# Altium footprint library Murata.PcbLib: 65 footprints (part 4 of 5)
Each footprint in its own frame and in the unit in brackets; x right, y up, seen from the top. Pads: shape width x height; smd on the part's side, far side on the other; paste and mask are expansions set on the pad; w line width, h text height; cw(c..) or ccw(c..) is an arc to the next point about the centre after c.
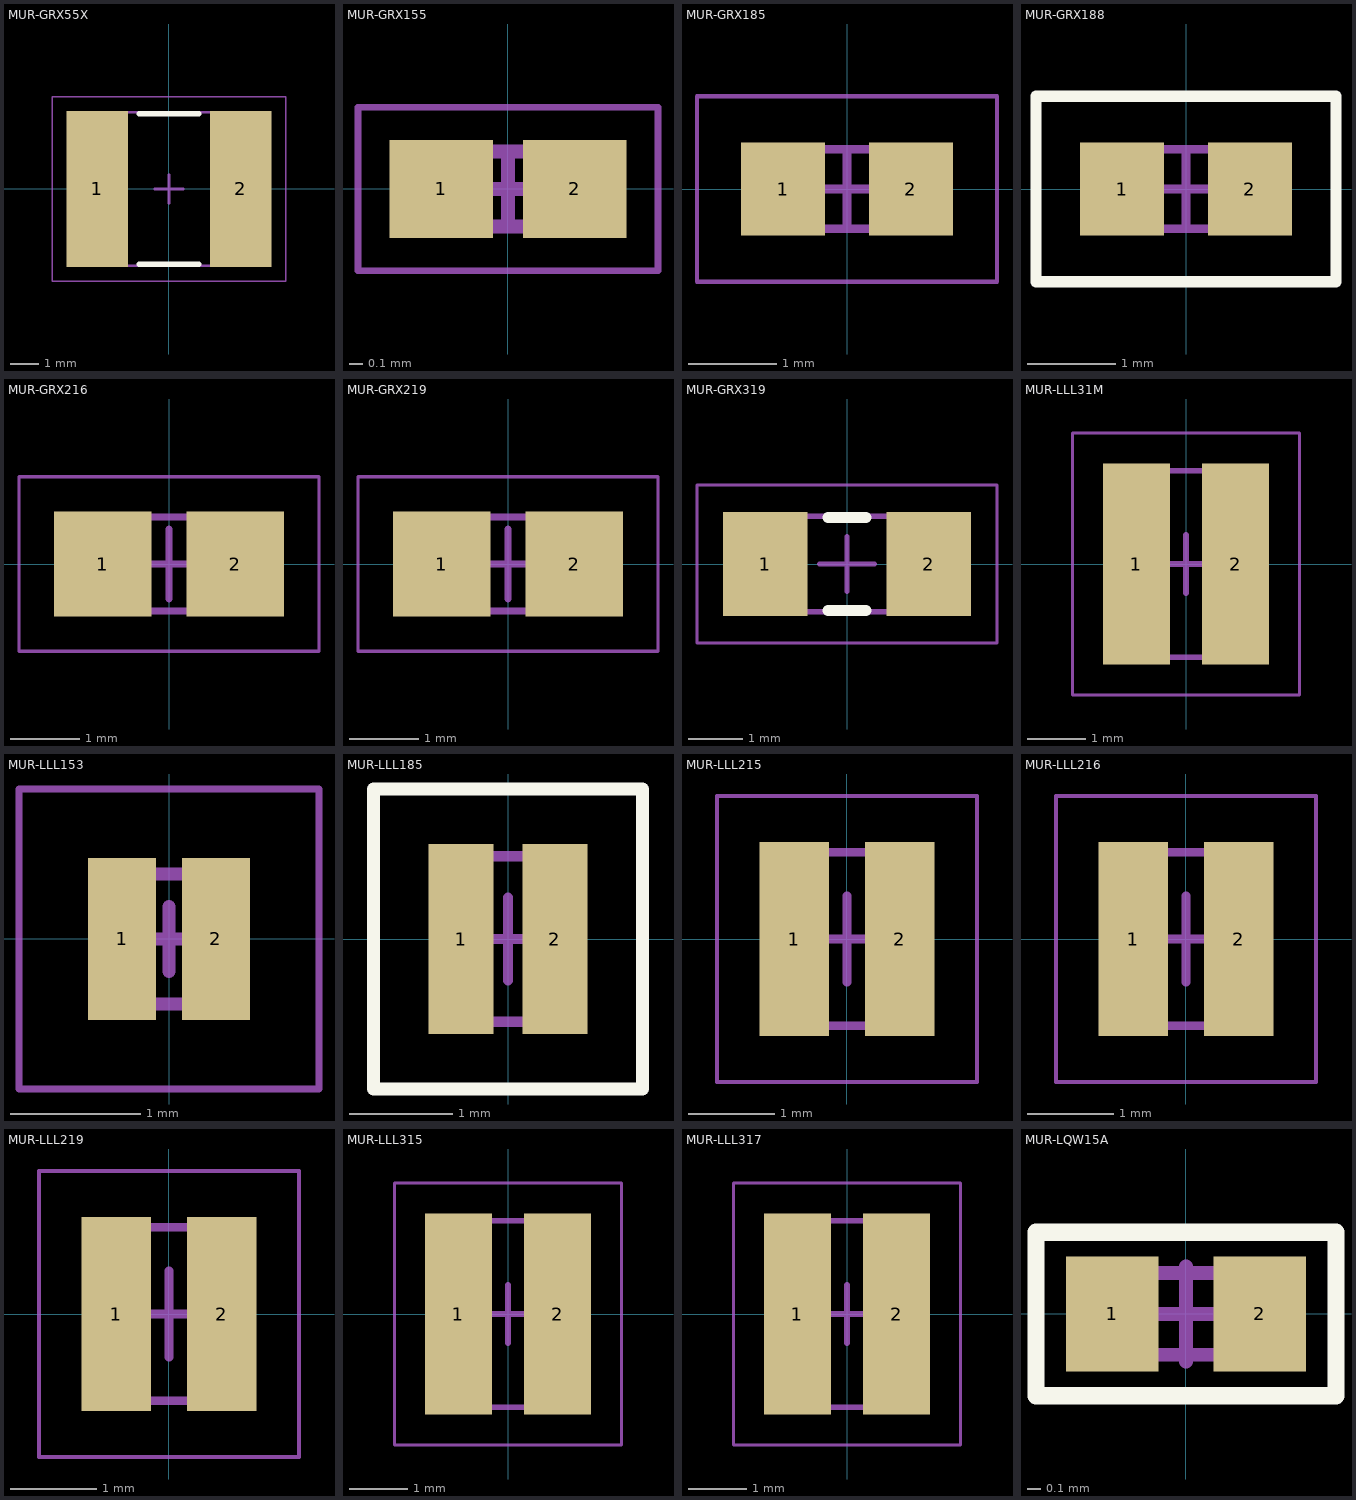
[diagram p3: the footprints below, top view; thin cyan lines are the x and y axes]

## MUR-GRX55X [mm] "Chip Capacitor, 2-Leads, Body 5.70x5.00mm, IPC Low Density"
height 2
pads (2):
  rect 2.15x5.5 smd: 1(-2.525,0) 2(2.525,0)
Top Overlay:
  lines w0.2: -1.05,-2.65 1.05,-2.65 ; -1.05,2.65 1.05,2.65
Mechanical 13:
  lines w0.1: -3.05,-2.7 3.05,-2.7 3.05,2.7 -3.05,2.7 -3.05,-2.7
Mechanical 15:
  lines w0.05: -4.1,-3.25 4.1,-3.25 4.1,3.25 -4.1,3.25 -4.1,-3.25
  lines w0.1: -0.5,0 0.5,0 ; 0,-0.5 0,0.5
3D body: height 2, standoff 0, extent 2.3,-2.7 3.05,2.7
3D body: height 2, standoff 0, extent -3.05,-2.7 -2.3,2.7
3D body: height 2, standoff 0, extent -2.3,-2.7 2.3,2.7

## MUR-GRX155 [mm] "Chip Capacitor, 2-Leads, Body 1.00x0.50mm, IPC Low Density"
height 0.55
pads (2):
  rect 0.76x0.72 smd: 1(-0.49,0) 2(0.49,0)
Mechanical 13:
  lines w0.1: -0.525,-0.275 -0.525,0.275 0.525,0.275 0.525,-0.275 -0.525,-0.275
Mechanical 15:
  lines w0.05: -1.1,-0.6 -1.1,0.6 1.1,0.6 1.1,-0.6 -1.1,-0.6
  lines w0.1: -0.275,0 0.275,0 ; 0,-0.275 0,0.275
3D body: height 0.55, standoff 0, extent -0.275,-0.275 0.275,0.275
3D body: height 0.55, standoff 0, extent -0.525,-0.275 -0.275,0.275
3D body: height 0.55, standoff 0, extent 0.275,-0.275 0.525,0.275

## MUR-GRX185 [mm] "Chip Capacitor, 2-Leads, Body 1.60x0.80mm, IPC Low Density"
height 0.55
pads (2):
  rect 0.95x1.05 smd: 1(-0.725,0) 2(0.725,0)
Mechanical 13:
  lines w0.1: -0.85,-0.45 0.85,-0.45 0.85,0.45 -0.85,0.45 -0.85,-0.45
Mechanical 15:
  lines w0.05: -1.7,-1.05 1.7,-1.05 1.7,1.05 -1.7,1.05 -1.7,-1.05
  lines w0.1: -0.45,0 0.45,0 ; 0,-0.45 0,0.45
3D body: height 0.55, standoff 0, extent 0.5,-0.45 0.85,0.45
3D body: height 0.55, standoff 0, extent -0.85,-0.45 -0.5,0.45
3D body: height 0.55, standoff 0, extent -0.5,-0.45 0.5,0.45

## MUR-GRX188 [mm] "Chip Capacitor, 2-Leads, Body 1.60x0.80mm, IPC Low Density"
height 0.9
pads (2):
  rect 0.95x1.05 smd: 1(-0.725,0) 2(0.725,0)
Top Overlay:
  lines w0.127: -1.7,-1.05 -1.7,1.05 1.7,1.05 1.7,-1.05 -1.7,-1.05
Mechanical 13:
  lines w0.1: -0.85,-0.45 -0.85,0.45 0.85,0.45 0.85,-0.45 -0.85,-0.45
Mechanical 15:
  lines w0.05: -1.7,-1.05 1.7,-1.05 1.7,1.05 -1.7,1.05 -1.7,-1.05
  lines w0.1: -0.45,0 0.45,0 ; 0,-0.45 0,0.45
3D body: height 0.9, standoff 0, extent -0.5,-0.45 0.5,0.45
3D body: height 0.9, standoff 0, extent -0.85,-0.45 -0.5,0.45
3D body: height 0.9, standoff 0, extent 0.5,-0.45 0.85,0.45

## MUR-GRX216 [mm] "Chip Capacitor, 2-Leads, Body 2.00x1.25mm, IPC Low Density"
height 0.7
pads (2):
  rect 1.4x1.5 smd: 1(-0.95,0) 2(0.95,0)
Mechanical 13:
  lines w0.1: -1.05,-0.675 1.05,-0.675 1.05,0.675 -1.05,0.675 -1.05,-0.675
Mechanical 15:
  lines w0.05: -2.15,-1.25 2.15,-1.25 2.15,1.25 -2.15,1.25 -2.15,-1.25
  lines w0.1: -0.5,0 0.5,0 ; 0,-0.5 0,0.5
3D body: height 0.7, standoff 0, extent 0.6,-0.675 1.05,0.675
3D body: height 0.7, standoff 0, extent -1.05,-0.675 -0.6,0.675
3D body: height 0.7, standoff 0, extent -0.6,-0.675 0.6,0.675

## MUR-GRX219 [mm] "Chip Capacitor, 2-Leads, Body 2.00x1.25mm, IPC Low Density"
height 0.95
pads (2):
  rect 1.4x1.5 smd: 1(-0.95,0) 2(0.95,0)
Mechanical 13:
  lines w0.1: -1.05,-0.675 1.05,-0.675 1.05,0.675 -1.05,0.675 -1.05,-0.675
Mechanical 15:
  lines w0.05: -2.15,-1.25 2.15,-1.25 2.15,1.25 -2.15,1.25 -2.15,-1.25
  lines w0.1: -0.5,0 0.5,0 ; 0,-0.5 0,0.5
3D body: height 0.95, standoff 0, extent 0.6,-0.675 1.05,0.675
3D body: height 0.95, standoff 0, extent -1.05,-0.675 -0.6,0.675
3D body: height 0.95, standoff 0, extent -0.6,-0.675 0.6,0.675

## MUR-GRX319 [mm] "Chip Capacitor, 2-Leads, Body 3.20x1.60mm, IPC Low Density"
height 0.95
pads (2):
  rect 1.55x1.9 smd: 1(-1.5,0) 2(1.5,0)
Top Overlay:
  lines w0.2: -0.35,-0.85 0.35,-0.85 ; -0.35,0.85 0.35,0.85
Mechanical 13:
  lines w0.1: -1.675,-0.875 1.675,-0.875 1.675,0.875 -1.675,0.875 -1.675,-0.875
Mechanical 15:
  lines w0.05: -2.75,-1.45 2.75,-1.45 2.75,1.45 -2.75,1.45 -2.75,-1.45
  lines w0.1: -0.5,0 0.5,0 ; 0,-0.5 0,0.5
3D body: height 0.95, standoff 0, extent 1.125,-0.875 1.675,0.875
3D body: height 0.95, standoff 0, extent -1.675,-0.875 -1.125,0.875
3D body: height 0.95, standoff 0, extent -1.125,-0.875 1.125,0.875

## MUR-LLL31M [mm] "Chip Capacitor, 2-Leads, Body 1.60x3.20mm, IPC Low Density"
height 1.15
pads (2):
  rect 1.15x3.45 smd: 1(-0.85,0) 2(0.85,0)
Mechanical 13:
  lines w0.1: -0.8,-1.6 0.8,-1.6 0.8,1.6 -0.8,1.6 -0.8,-1.6
Mechanical 15:
  lines w0.05: -1.95,-2.25 1.95,-2.25 1.95,2.25 -1.95,2.25 -1.95,-2.25
  lines w0.1: -0.5,0 0.5,0 ; 0,-0.5 0,0.5
3D body: height 1.15, standoff 0, extent 0.45,-1.6 0.8,1.6
3D body: height 1.15, standoff 0, extent -0.8,-1.6 -0.45,1.6
3D body: height 1.15, standoff 0, extent -0.45,-1.6 0.45,1.6

## MUR-LLL153 [mm] "Chip Capacitor, 2-Leads, Body 0.50x1.00mm, IPC Low Density"
height 0.3
pads (2):
  rect 0.52x1.24 smd: 1(-0.36,0) 2(0.36,0)
Mechanical 13:
  lines w0.1: -0.25,-0.5 -0.25,0.5 0.25,0.5 0.25,-0.5 -0.25,-0.5
Mechanical 15:
  lines w0.05: -1.15,-1.15 -1.15,1.15 1.15,1.15 1.15,-1.15 -1.15,-1.15
  lines w0.1: -0.25,0 0.25,0 ; 0,-0.25 0,0.25
3D body: height 0.3, standoff 0, extent -0.07,-0.5 0.07,0.5
3D body: height 0.3, standoff 0, extent -0.25,-0.5 -0.07,0.5
3D body: height 0.3, standoff 0, extent 0.07,-0.5 0.25,0.5

## MUR-LLL185 [mm] "Chip Capacitor, 2-Leads, Body 0.80x1.60mm, IPC Low Density"
height 0.5
pads (2):
  rect 0.632x1.84 smd: 1(-0.454,0) 2(0.454,0)
Top Overlay:
  lines w0.127: -1.3,-1.45 -1.3,1.45 1.3,1.45 1.3,-1.45 -1.3,-1.45
Mechanical 13:
  lines w0.1: -0.4,-0.8 -0.4,0.8 0.4,0.8 0.4,-0.8 -0.4,-0.8
Mechanical 15:
  lines w0.05: -1.3,-1.45 1.3,-1.45 1.3,1.45 -1.3,1.45 -1.3,-1.45
  lines w0.1: -0.4,0 0.4,0 ; 0,-0.4 0,0.4
3D body: height 0.5, standoff 0, extent -0.15,-0.8 0.15,0.8
3D body: height 0.5, standoff 0, extent -0.4,-0.8 -0.15,0.8
3D body: height 0.5, standoff 0, extent 0.15,-0.8 0.4,0.8

## MUR-LLL215 [mm] "Chip Capacitor, 2-Leads, Body 1.25x2.00mm, IPC Low Density"
height 0.5
pads (2):
  rect 0.8x2.24 smd: 1(-0.61,0) 2(0.61,0)
Mechanical 13:
  lines w0.1: -0.625,-1 0.625,-1 0.625,1 -0.625,1 -0.625,-1
Mechanical 15:
  lines w0.05: -1.5,-1.65 1.5,-1.65 1.5,1.65 -1.5,1.65 -1.5,-1.65
  lines w0.1: -0.5,0 0.5,0 ; 0,-0.5 0,0.5
3D body: height 0.5, standoff 0, extent 0.325,-1 0.625,1
3D body: height 0.5, standoff 0, extent -0.625,-1 -0.325,1
3D body: height 0.5, standoff 0, extent -0.325,-1 0.325,1

## MUR-LLL216 [mm] "Chip Capacitor, 2-Leads, Body 1.25x2.00mm, IPC Low Density"
height 0.5
pads (2):
  rect 0.8x2.24 smd: 1(-0.61,0) 2(0.61,0)
Mechanical 13:
  lines w0.1: -0.625,-1 -0.625,1 0.625,1 0.625,-1 -0.625,-1
Mechanical 15:
  lines w0.05: -1.5,-1.65 -1.5,1.65 1.5,1.65 1.5,-1.65 -1.5,-1.65
  lines w0.1: -0.5,0 0.5,0 ; 0,-0.5 0,0.5
3D body: height 0.5, standoff 0, extent -0.325,-1 0.325,1
3D body: height 0.5, standoff 0, extent -0.625,-1 -0.325,1
3D body: height 0.5, standoff 0, extent 0.325,-1 0.625,1

## MUR-LLL219 [mm] "Chip Capacitor, 2-Leads, Body 1.25x2.00mm, IPC Low Density"
height 0.85
pads (2):
  rect 0.8x2.24 smd: 1(-0.61,0) 2(0.61,0)
Mechanical 13:
  lines w0.1: -0.625,-1 -0.625,1 0.625,1 0.625,-1 -0.625,-1
Mechanical 15:
  lines w0.05: -1.5,-1.65 -1.5,1.65 1.5,1.65 1.5,-1.65 -1.5,-1.65
  lines w0.1: -0.5,0 0.5,0 ; 0,-0.5 0,0.5
3D body: height 0.85, standoff 0, extent -0.325,-1 0.325,1
3D body: height 0.85, standoff 0, extent -0.625,-1 -0.325,1
3D body: height 0.85, standoff 0, extent 0.325,-1 0.625,1

## MUR-LLL315 [mm] "Chip Capacitor, 2-Leads, Body 1.60x3.20mm, IPC Low Density"
height 0.5
pads (2):
  rect 1.15x3.45 smd: 1(-0.85,0) 2(0.85,0)
Mechanical 13:
  lines w0.1: -0.8,-1.6 -0.8,1.6 0.8,1.6 0.8,-1.6 -0.8,-1.6
Mechanical 15:
  lines w0.05: -1.95,-2.25 -1.95,2.25 1.95,2.25 1.95,-2.25 -1.95,-2.25
  lines w0.1: -0.5,0 0.5,0 ; 0,-0.5 0,0.5
3D body: height 0.5, standoff 0, extent -0.45,-1.6 0.45,1.6
3D body: height 0.5, standoff 0, extent -0.8,-1.6 -0.45,1.6
3D body: height 0.5, standoff 0, extent 0.45,-1.6 0.8,1.6

## MUR-LLL317 [mm] "Chip Capacitor, 2-Leads, Body 1.60x3.20mm, IPC Low Density"
height 0.7
pads (2):
  rect 1.15x3.45 smd: 1(-0.85,0) 2(0.85,0)
Mechanical 13:
  lines w0.1: -0.8,-1.6 0.8,-1.6 0.8,1.6 -0.8,1.6 -0.8,-1.6
Mechanical 15:
  lines w0.05: -1.95,-2.25 1.95,-2.25 1.95,2.25 -1.95,2.25 -1.95,-2.25
  lines w0.1: -0.5,0 0.5,0 ; 0,-0.5 0,0.5
3D body: height 0.7, standoff 0, extent 0.45,-1.6 0.8,1.6
3D body: height 0.7, standoff 0, extent -0.8,-1.6 -0.45,1.6
3D body: height 0.7, standoff 0, extent -0.45,-1.6 0.45,1.6

## MUR-LQW15A [mm] "Chip Inductor, 2-Leads, Body 1.00x0.60mm, IPC Low Density"
height 0.6
pads (2):
  rect 0.68x0.84 smd: 1(-0.54,0) 2(0.54,0)
Top Overlay:
  lines w0.127: -1.1,-0.6 -1.1,0.6 1.1,0.6 1.1,-0.6 -1.1,-0.6
Mechanical 13:
  lines w0.1: -0.5,-0.3 -0.5,0.3 0.5,0.3 0.5,-0.3 -0.5,-0.3
Mechanical 15:
  lines w0.05: -1.1,-0.6 1.1,-0.6 1.1,0.6 -1.1,0.6 -1.1,-0.6
  lines w0.1: -0.35,0 0.35,0 ; 0,-0.35 0,0.35
3D body "User Library-INDC1005X50-MURATA_LQW15A.step": height 0.51, standoff 0, extent -0.5,-0.3 0.5,0.3